# Altium footprint library Ballast and Depth Controller.PcbLib: 17 footprints (part 2 of 2)
Each footprint in its own frame and in the unit in brackets; x right, y up, seen from the top. Pads: shape width x height; smd on the part's side, far side on the other; paste and mask are expansions set on the pad; w line width, h text height; cw(c..) or ccw(c..) is an arc to the next point about the centre after c.
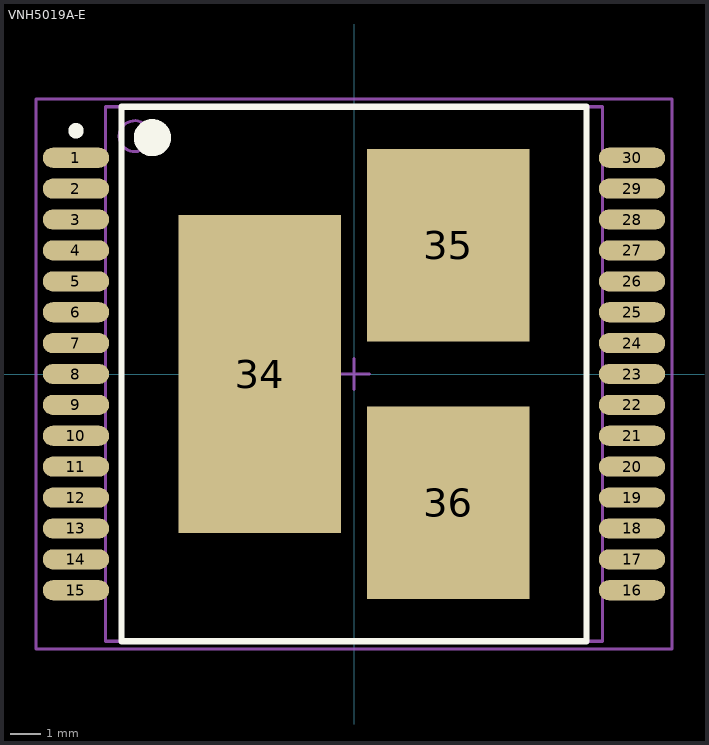
[diagram p1: the footprint, top view; thin cyan lines are the x and y axes]

## VNH5019A-E [mm] "STMicroelectronics VNH5019A-E H-Bridge"
height 2.35
pads (33):
  oval 2.15x0.65 smd: 1(-9,7) 2(-9,6) 3(-9,5) 4(-9,4) 5(-9,3) 6(-9,2) 7(-9,1) 8(-9,0) 9(-9,-1) 10(-9,-2) 11(-9,-3) 12(-9,-4) 13(-9,-5) 14(-9,-6) 15(-9,-7) 16(9,-7) 17(9,-6) 18(9,-5) 19(9,-4) 20(9,-3) 21(9,-2) 22(9,-1) 23(9,0) 24(9,1) 25(9,2) 26(9,3) 27(9,4) 28(9,5) 29(9,6) 30(9,7)
  rect 5.25x10.3 smd: 34(-3.05,0)
  rect 5.25x6.23 smd: 35(3.05,4.165) 36(3.05,-4.165)
Top Overlay:
  circle w0.6: c-6.525,7.65 r0.3
  circle w0.25: c-9,7.875 r0.125
  lines w0.2: -7.525,-8.65 7.525,-8.65 7.525,8.65 -7.525,8.65 -7.525,-8.65
Mechanical 13:
  circle w0.1: c-7.1,7.7 r0.5
  lines w0.1: -8.05,-8.65 8.05,-8.65 8.05,8.65 -8.05,8.65 -8.05,-8.65
Mechanical 15:
  lines w0.1: -0.5,0 0.5,0 ; 0,-0.5 0,0.5 ; -10.3,-8.9 10.3,-8.9 10.3,8.9 -10.3,8.9 -10.3,-8.9
3D body: height 2.35, standoff 0.35, extent -8.05,-8.65 8.05,8.65